# Altium schematic symbol library SOARSchematics.SchLib: 87 symbols (part 1 of 2)
Pins are listed as number, name and electrical type; pins without a type are passive.

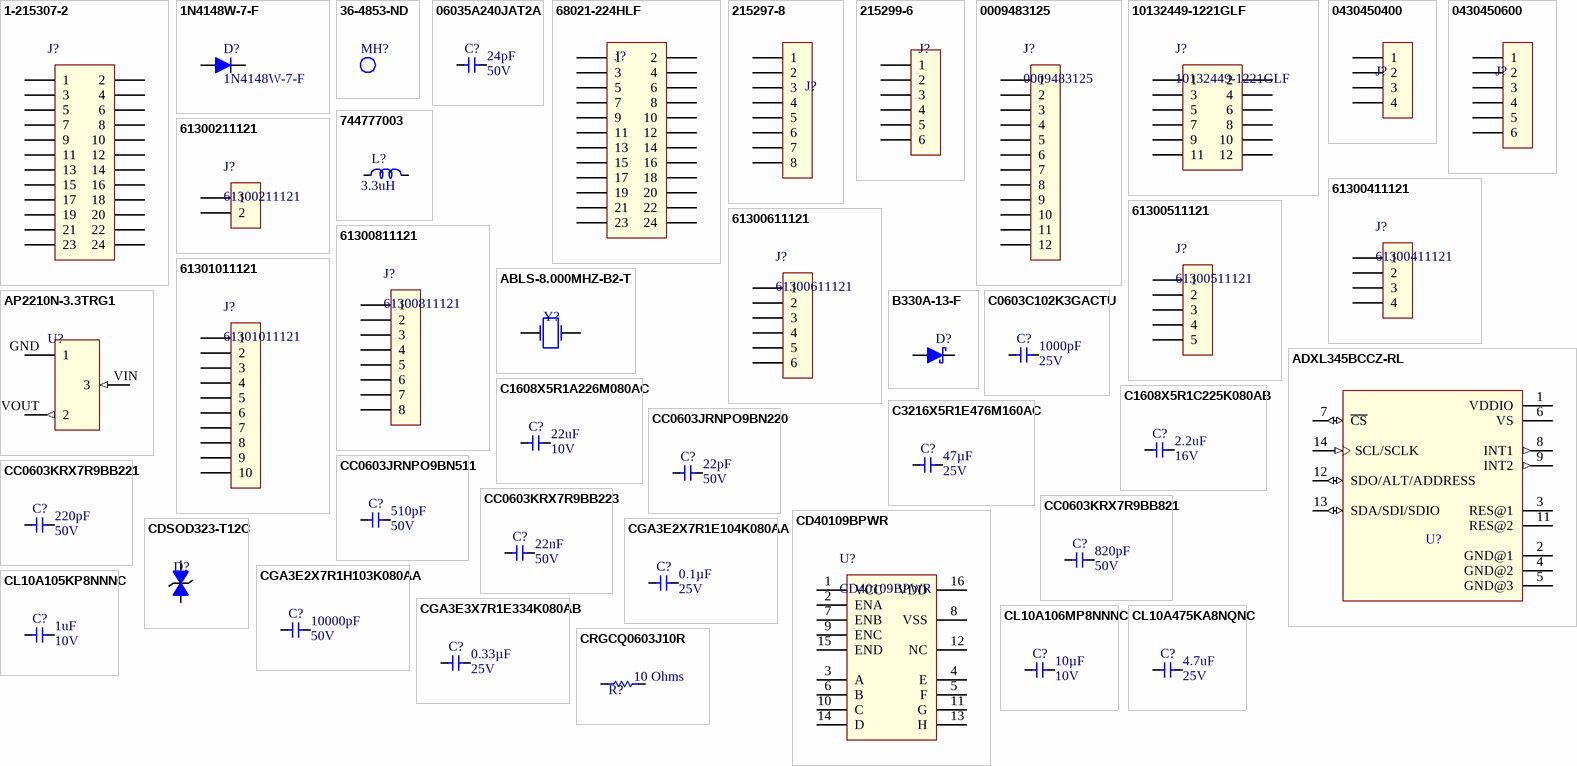
[diagram p0: symbols 1-215307-2 to CRGCQ0603J10R]

## 1-215307-2
designator J?  (value not drawn)
CONN RCPT 24POS 0.1 GOLD PCB; Manufacturer: TE Connectivity AMP Connectors; Connector Type: Receptacle; Number of Positions: 24; Number of Positions Loaded: All; Pitch - Mating: 0.100" (2.54mm); Contact Length - Post: 0.122" (3.10mm); Material Flammability Rating: UL94 V-0; Supplier 1: Digi-Key; Supplier Part Number 1: A106617-ND; ComponentLink1Description: Datasheet; ComponentLink1URL: https://www.te.com/commerce/DocumentDelivery/DDEController?Action=srchrtrv&DocNm=215307&DocType=Customer+Drawing&DocLang=English; Manufacturer Part Number: 1-215307-2; Contact Type: Female Socket; Number of Rows: 2; Row Spacing - Mating: 0.100" (2.54mm); Mounting Type: Through Hole; Termination: Kinked Pin, Solder; Fastening Type: Push-Pull; Contact Finish - Mating: Gold; Contact Finish Thickness - Mating: 31.5µin (0.80µm); Insulation Color: Green; Insulation Height: 0.276" (7.00mm); Contact Finish - Post: Tin; Insulation Material: Polyester, Glass Filled; Contact Shape: Square; Contact Material: Contact Material; Contact Finish Thickness - Post: 98.4µin (2.50µm)
footprint 1-215307-2
pins: 1, 2, 3, 4, 5, 6, 7, 8, 9, 10, 11, 12, 13, 14, 15, 16, 17, 18, 19, 20, 21, 22, 23, 24

## 1N4148W-7-F
designator D?
DIODE GEN PURP 100V 300MA SOD123; Manufacturer: Diodes Incorporated; Diode Type: Standard; Current - Average Rectified (Io): 300mA (DC); Voltage - Forward (Vf) (Max) @ If: 1.25V @ 150mA; Speed: Small Signal =< 200mA (Io), Any Speed; Reverse Recovery Time (trr): 4ns; Current - Reverse Leakage @ Vr: 1µA @ 75V; Capacitance @ Vr, F: 2pF @ 0V, 1MHz; ComponentLink1Description: Datasheet; ComponentLink1URL: https://www.diodes.com/assets/Datasheets/ds30086.pdf; Manufacturer Part Number: 1N4148W-7-F; Voltage - DC Reverse (Vr) (Max): 100V; Mounting Type: Surface Mount; Package / Case: SOD-123; Operating Temperature - Junction: -65°C ~ 150°C; Supplier 1: Digi-Key; Supplier Part Number 1: 1N4148W-FDICT-ND
footprint 1N4148W-7-F (SOD123)
pins: 1 A, 2 C

## 36-4853-ND
designator MH?  (value not drawn)
#4 Screw Standoff, 0.116in Diameter; Manufacturer: Keystone Electronics; Manufacturer Part Number: 4853; Threaded/Unthreaded: Unthreaded; Gender: Female, Force Fit; Between Board Height: 0.375" (9.53mm) 3/8"; Supplier 1: Digi-Key; ComponentLink1Description: Datasheet; ComponentLink1URL: https://www.keyelco.com/userAssets/file/M65p77.pdf; Supplier Part Number 1: 36-4853-ND; Type: Round Spacer; Screw, Thread Size: #4; Diameter - Inside: 0.116" (2.95mm); Diameter - Outside: 0.219" (5.56mm); Length - Overall: 0.435" (11.05mm); Material: Stainless Steel
footprint Standoff (#4, 0.116in)

## 06035A240JAT2A
designator C?  Capacitance: 24pF  Voltage - Rated: 50V  (hidden comment: 06035A240JAT2A)
CAP CER 24PF 50V NP0 0603; Manufacturer: AVX Corporation; Tolerance: ±5%; Temperature Coefficient: C0G, NP0; Operating Temperature: -55°C ~ 125°C; Mounting Type: Surface Mount, MLCC; Package / Case: 0603 (1608 Metric); Size / Dimension: 0.063" L x 0.032" W (1.60mm x 0.81mm); Manufacturer Part Number: 06035A240JAT2A; Thickness (Max): 0.035" (0.90mm); ComponentLink1Description: Datasheet; ComponentLink1URL: http://datasheets.avx.com/C0GNP0-Dielectric.pdf; Supplier 1: Digi-Key; Supplier Part Number 1: 478-10304-1-ND
footprint 0603[1608]
pins: 1, 2

## 68021-224HLF
designator J?  (value not drawn)
CONN HEADER R/A 24POS 2.54MM; Manufacturer: Amphenol ICC (FCI); Pitch-Mating: 0.100" (2.54mm); Number of Positions: 24; Number of Positions Loaded: All; Shrouding: Unshrouded; Style: Board to Board; Contact Length - Mating: 0.230" (5.84mm); Contact Length - Post: 0.120" (3.05mm); Material Flammability Rating: UL94 V-0; Current Rating (Amps): 3A per Contact; ComponentLink1Description: Datasheet; ComponentLink1URL: https://cdn.amphenol-icc.com/media/wysiwyg/files/drawing/68020.pdf; Supplier 1: Digi-Key; Supplier Part Number 1: 609-3348-ND; Connector Type: Header; Contact Type: Male Pin; Number of Rows: 2; Row Spacing - Mating: 0.100" (2.54mm); Mounting Type: Through Hole, Right Angle; Termination: Solder; Fastening Type: Push-Pull; Insulation Height: 0.190" (4.83mm); Contact Shape: Square; Contact Finish - Mating: Gold or Gold, GXT™; Contact Finish Thickness - Mating: 15.0µin (0.38µm); Contact Material: Phosphor Bronze; Operating Temperature: -65°C ~ 125°C; Insulation Color: Black
footprint 68021-224HLF
pins: 1, 2, 3, 4, 5, 6, 7, 8, 9, 10, 11, 12, 13, 14, 15, 16, 17, 18, 19, 20, 21, 22, 23, 24

## 215297-8
designator J?  (value not drawn)
CONN RCPT 8POS 0.1 GOLD PCB; Manufacturer: TE Connectivity AMP Connectors; Connector Type: Receptacle; Number Of Positions: 8; Number Of Positions Loaded: All; Pitch-Mating: 0.100" (2.54mm); Contact Length-Post: 0.122" (3.10mm); Material Flammability Rating: UL94 V-0; Supplier 1: Digi-Key; Supplier Part Number 1: A106654-ND; ComponentLink1Description: Datasheet; ComponentLink1URL: https://www.te.com/commerce/DocumentDelivery/DDEController?Action=srchrtrv&DocNm=215297&DocType=Customer+Drawing&DocLang=English; Contact Type: Female Socket; Number Of Rows: 1; Mounting Type: Through Hole; Termination: Kinked Pin, Solder; Fastening Type: Push-Pull; Contact Finish-Mating: Gold; Contact Finish Mating Thickness-Mating: 31.5µin (0.80µm); Insulation Colour: Green; Insulation Height: 0.276" (7.00mm); Contact Finish - Post: Tin; Insulation Material: Polyester, Glass Filled; Contact Shape: Square; Contact Material: Phosphor Bronze; Contact Finish Thickness - Post: 118.1µin (3.00µm); Manufacturer Part Number: 215297-8
footprint 215297-8
pins: 1, 2, 3, 4, 5, 6, 7, 8

## 215299-6
designator J?  (value not drawn)
CONN RCPT 6POS 0.1 GOLD PCB; Manufacturer: TE Connectivity AMP Connectors; Connector Type: Receptacle; Number Of Positions: 6; Number Of Positions Loaded: All; Pitch-Mating: 0.100" (2.54mm); Contact Length - Post: 0.122" (3.10mm); Material Flammability Rating: UL94 V-0; ComponentLink1Description: Datasheet; ComponentLink1URL: https://www.te.com/commerce/DocumentDelivery/DDEController?Action=srchrtrv&DocNm=215299&DocType=Customer+Drawing&DocLang=English; Supplier 1: Digi-Key; Supplier Part Number 1: A121761-ND; Contact Type: Female Socket; Number Of Rows: 1; Mounting Type: Through Hole; Termination: Kinked Pin, Solder; Fastening Type: Push-Pull; Contact Finish - Mating: Gold; Contact Finish Thickness - Mating: 31.5µin (0.80µm); Insulation Colour: Green; Insulation Height: 0.335" (8.51mm); Contact Finish - Post: Tin; Insulation Material: Polyester, Glass Filled; Contact Shape: Square; Contact Material: Phosphor Bronze; Contact Finish Thickness - Post: 118.1µin (3.00µm); Manufacturer Part Number: 215299-6
footprint 215299-6
pins: 1, 2, 3, 4, 5, 6

## 0009483125
designator J?
CONN RCPT 12P 0.156 GOLD EDGE MT; Manufacturer: Molex; Connector Type: Receptacle; Style: Board to Board or Cable; Number of Positions: 12; Pitch - Mating: 0.156" (3.96mm); Number of Positions Loaded: All; Contact Length - Post: 0.145" (3.68mm); Material Flammability Rating: UL94 V-0; Voltage Rating: 600V; Current Rating (Amps): 4.5A; ComponentLink1Description: Drawing; ComponentLink1URL: https://www.molex.com/pdm_docs/sd/009483125_sd.pdf; Manufacturer Part Number: 0009483125; Contact Type: Female Socket; Number of Rows: 1; Mounting Type: Board Edge, Through Hole, Right Angle; Termination: Solder; Fastening Type: Locking Ramp; Contact Finish - Mating: Gold; Contact Finish Thickness - Mating: 15.0µin (0.38µm); Insulation Color: Natural; Insulation Height: 0.308" (7.82mm); Operating Temperature: -40°C ~ 80°C; Contact Finish - Post: Tin; Features: Board Hooks; Applications: Automotive, General Purpose, Medical, Telecommunications; Insulation Material: Polyester; Contact Shape: Square; Contact Material: Brass; Contact Finish Thickness - Post: 100.0µin (2.54µm)
footprint 0009483125 (CONN RCPT 12P 0.156 GOLD EDGE MT)
pins: 1 (power), 2 (power), 3 (power), 4 (power), 5 (power), 6 (power), 7 (power), 8 (power), 9 (power), 10 (power), 11, 12

## 10132449-1221GLF
designator J?
CONN HEADER R/A 12POS 3MM; Manufacturer: Amphenol ICC (FCI); Pitch - Mating: 0.118" (3.00mm); Number of Positions: 12; Number of Positions Loaded: All; Style: Board to Cable/Wire; Shrouding: Shrouded - 4 Wall; Contact Length - Post: 0.126" (3.20mm); Material Flammability Rating: UL94 V-0; Voltage Rating: 250V; ComponentLink1Description: Datasheet; ComponentLink1URL: https://cdn.amphenol-icc.com/media/wysiwyg/files/documentation/datasheet/boardwiretoboard/bwb_minitekpwr3.0_hcc.pdf?__cf_chl_jschl_tk__=5b50c337d7977d3136f5a7e9c1a5138446a86722-1578191481-0-AdRe7fXYrldvOZ_oqyXIDS1Fw-yIkYCF-QCdaR8gv5bvudzwMePuF1OnY_qX9R1SRbUtnU8KyfMeQWvo-tgbYDs0UY0fEf2VYly7RnE44wN6RCRwe79pwwTkwB-vrp_E3FFt_m8Gv1l0VQgfDvqJJh9NWsFdXN6uiHYgEWJHQlxni9pgO_Rgu9b74Q_adNTuUPkDts4F_sjwuXFS2gwZ4qhDRVIbOsJk9z2IFwtIQbJe2Vjr12REDPUJnSIFI5L_m3PVR56FMV99EE0fexLx9E4Xzm8z4yXY4QuL_nxicuZLnFM8rKw84cv6VQDtrcv1h8b5URSWpnxkbKmN-6xqBT_N2gwuiomQytubllip4AB4QtXNO4uZy8p0Kaq8ZXDsS9f0XOGpGrNCvURFRCr5YrB2nakG2mZwStZMD_Rr-W-x1kEQ5VT0_Uar3vHfURsPPw; ComponentLink2Description: Drawing; ComponentLink2URL: https://cdn.amphenol-icc.com/media/wysiwyg/files/drawing/10132449.pdf?__cf_chl_jschl_tk__=3fb7538f61705fd3db72d6547b71e22025aaeae6-1578191484-0-ARZmBU2d2iTfwOyvkDW6juGvz8Wa7jPk-lPTAGC3bi6AwA2PAOw_83XbqimUoaj63c73oghkBl5EBlxfVnJt5FnKIy9_Ampqry6wpxN3P9yFfGzzu2bzrkjXc8H98cNGfE4yNZOx4lVYAc0DYF8iUgUBt3ot3PAqRWTuL_OE0dIKXvMd7u_4fU7igR1oB3QBFAu564mexcV1Dg4phJ9BA4kHFs6CIC10MmA2ZlPsaDWmfr6ivcYRarJOnVBN46Piz5s9Rafd2OkXuSIM4yJjlli4dKOItRDrJD3hRC0iA9RVgXipc9Ibd3Qny2RaW6xQiV-dovtBkpyFUGJQUyK5Difre6fQiv59Vrr2PfvD74WBgrERIBaIQ4JCRXFCC0XHSA; Supplier 1: Digi-Key; Supplier Part Number 1: 609-5289-ND; Contact Type: Male Pin; Number of Rows: 2; Row Spacing - Mating: 0.118" (3.00mm); Mounting Type: Through Hole, Right Angle; Termination: Solder; Fastening Type: Locking Ramp; Insulation Height: 0.343" (8.71mm); Contact Shape: Square; Contact Finish - Mating: Tin; Contact Finish - Post: Tin; Contact Material: Copper Alloy; Insulation Material: Polyamide (PA9T), Nylon 9T; Features: Board Lock, Glow Wire Compliant; Operating Temperature: -40°C ~ 105°C; Insulation Color: Black; Manufacturer Part Number: 10132449-1221GLF
footprint 10132449-1221GLF (CONN HEADER R/A 12POS 3MM)
pins: 1, 2, 3, 4, 5, 6, 7, 8, 9, 10, 11, 12

## 0430450400
designator J?  (value not drawn)
CONN HEADER R/A 4POS 3MM; Manufacturer: Molex; Number of Positions: 4; Row Spacing - Mating: 0.118" (3.00mm); Shrouding: Shrouded - 4 Wall; Contact Length - Post: 0.125" (3.18mm); Material Flammability Rating: UL94 V-0; Current Rating (Amps): 8A; Voltage Rating: 600V; ComponentLink1Description: Datasheet; ComponentLink1URL: https://www.molex.com/pdm_docs/sd/430450400_sd.pdf; ComponentLink2Description: Product Specification; ComponentLink2URL: https://www.molex.com/pdm_docs/ps/PS-43045.pdf; Manufacturer Part Number: 0430450400; Contact Type: 0.118" (3.00mm); Number of Rows: 2; Mounting Type: Through Hole, Right Angle; Termination: Solder; Fastening Type: Locking Ramp; Insulation Height: 0.290" (7.37mm); Contact Shape: Square; Contact Finish - Mating: Tin; Contact Finish Thickness - Mating: 100.0µin (2.54µm); Contact Finish - Post: Tin; Contact Material: Brass; Insulation Material: Liquid Crystal Polymer (LCP), Glass Filled; Features: Board Lock; Insulation Color: Black; Supplier 1: Digi-Key; Supplier Part Number 1: WM1814-ND
footprint 0430450400 (4-Pin Molex 3.00mm Pitch)
pins: 1, 2, 3, 4

## 0430450600
designator J?  (value not drawn)
CONN HEADER R/A 6POS 3MM; Manufacturer: Molex; Number of Positions: 6; Row Spacing - Mating: 0.118" (3.00mm); Shrouding: Shrouded - 4 Wall; Contact Length - Post: 0.125" (3.18mm); Material Flammability Rating: UL94 V-0; Current Rating (Amps): 8A; Voltage Rating: 600V; ComponentLink1Description: Drawing; ComponentLink1URL: https://www.molex.com/pdm_docs/sd/430450600_sd.pdf; ComponentLink2Description: Product Specification; ComponentLink2URL: https://www.molex.com/pdm_docs/ps/PS-43045.pdf; Manufacturer Part Number: 0430450600; Contact Type: Male Pin; Number of Rows: 2; Mounting Type: Through Hole, Right Angle; Termination: Solder; Fastening Type: Locking Ramp; Insulation Height: 0.290" (7.37mm); Contact Shape: Square; Contact Finish - Mating: Tin; Contact Finish Thickness - Mating: 100.0µin (2.54µm); Contact Finish - Post: Tin; Contact Material: Brass; Insulation Material: Liquid Crystal Polymer (LCP), Glass Filled; Features: Board Lock; Insulation Color: Black; Supplier 1: Digi-Key; Supplier Part Number 1: WM1815-ND
footprint 0430450600 (6-Pin Molex 3.00mm Pitch)
pins: 1, 2, 3, 4, 5, 6

## 744777003
designator L?  value 3.3uH  (hidden comment: 744777003)
SMT SHIELDED POWER INDUCTOR SIZE; Manufacturer: Würth Elektronik; Type: Wirewound; Material - Core: Ferrite; Tolerance: +-20%; Current Rating (Amps): 3.5A; DC Resistance (DCR): 30mOhm Max; Inductance Frequency - Test: 55MHz; Current - Saturation: 4.6A; Series: 744777003; Shielding: Shielded; Operating Temperature: -40°C ~ 125°C; Mounting Type: Surface Mount; Size/Dimension: 0.287"" L x 0.287"" W (7.30mm x 7.30mm); Height - Seated (Max): 0.177"" (4.50mm); ComponentLink1Description: Datasheet; ComponentLink1URL: https://www.we-online.com/catalog/datasheet/744777003.pdf; Supplier Device Package: 7345; Supplier 1: Digi-Key; Supplier Part Number 1: 732-13497-1-ND; Ratings: AEC-Q200
footprint 744777003 (SMT SHIELDED POWER INDUCTOR SIZE)
pins: 1, 2

## 61300211121
designator J?
CONN HEADER VERT 2POS 2.54MM; Manufacturer: Würth Elektronik; Pitch - Mating: 0.100" (2.54mm); Number of Positions: 2; Style: Board to Board or Cable; Shrouding: Unshrouded; Contact Length - Mating: 0.236" (6.00mm); Contact Length - Post: 0.118" (3.00mm); Overall Contact Length: 0.454" (11.54mm); Material Flammability Rating: UL94 V-0; Current Rating (Amps): 3A; Voltage Rating: 250V; ComponentLink1Description: Drawing; ComponentLink1URL: https://www.we-online.de/katalog/datasheet/6130xx11121.pdf; Manufacturer Part Number: 61300211121; Connector Type: Header; Contact Type: Male Pin; Number of Rows: 1; Mounting Type: Through Hole; Termination: Solder; Fastening Type: Push-Pull; Insulation Height: 0.100" (2.54mm); Contact Shape: Square; Contact Finish - Mating: Gold; Contact Material: Copper Alloy; Insulation Material: Polybutylene Terephthalate (PBT); Operating Temperature: -40°C ~ 105°C; Insulation Color: Black; Supplier 1: Digi-Key; Supplier Part Number 1: 732-5315-ND
footprint 61300211121 (CONN HEADER VERT 2POS 2.54MM)
pins: 1, 2

## 61300411121
designator J?
CONN HEADER VERT 4POS MALE 2.54MM; Manufacturer: Würth Elektronik; Pitch - Mating: 0.100" (2.54mm); Number of Positions: 4; Style: Board to Board or Cable; Shrouding: Unshrouded; Contact Length - Mating: 0.236" (6.00mm); Contact Length - Post: 0.118" (3.00mm); Overall Contact Length: 0.454" (11.54mm); Material Flammability Rating: UL94 V-0; Current Rating (Amps): 3A; Voltage Rating: 250V; ComponentLink1Description: Drawing; ComponentLink1URL: https://www.we-online.de/katalog/datasheet/6130xx11121.pdf; Manufacturer Part Number: 61300411121; Connector Type: Header; Contact Type: Male Pin; Number of Rows: 1; Mounting Type: Through Hole; Termination: Solder; Fastening Type: Push-Pull; Insulation Height: 0.100" (2.54mm); Contact Shape: Square; Contact Finish - Mating: Gold; Contact Material: Copper Alloy; Insulation Material: Polybutylene Terephthalate (PBT); Operating Temperature: -40°C ~ 105°C; Insulation Color: Black; Supplier 1: Digi-Key; Supplier Part Number 1: 732-5317-ND
footprint 61300411121 (CONN HEADER VERT 4POS 2.54MM)
pins: 1, 2, 3, 4

## 61300511121
designator J?
CONN HEADER VERT 5POS MALE 2.54MM; Manufacturer: Würth Elektronik; Pitch - Mating: 0.100" (2.54mm); Number of Positions: 5; Style: Board to Board or Cable; Shrouding: Unshrouded; Contact Length - Mating: 0.236" (6.00mm); Contact Length - Post: 0.118" (3.00mm); Overall Contact Length: 0.454" (11.54mm); Material Flammability Rating: UL94 V-0; Current Rating (Amps): 3A; Voltage Rating: 250V; ComponentLink1Description: Drawing; ComponentLink1URL: https://www.we-online.de/katalog/datasheet/6130xx11121.pdf; Manufacturer Part Number: 61300511121; Connector Type: Header; Contact Type: Male Pin; Number of Rows: 1; Mounting Type: Through Hole; Termination: Solder; Fastening Type: Push-Pull; Insulation Height: 0.100" (2.54mm); Contact Shape: Square; Contact Finish - Mating: Gold; Contact Material: Copper Alloy; Insulation Material: Polybutylene Terephthalate (PBT); Operating Temperature: -40°C ~ 105°C; Insulation Color: Black; Supplier 1: Digi-Key; Supplier Part Number 1: 732-5318-ND
footprint 61300511121 (CONN HEADER VERT 5POS 2.54MM)
pins: 1, 2, 3, 4, 5

## 61300611121
designator J?
CONN HEADER VERT 6POS MALE 2.54MM; Manufacturer: Würth Elektronik; Pitch - Mating: 0.100" (2.54mm); Number of Positions: 6; Style: Board to Board or Cable; Shrouding: Unshrouded; Contact Length - Mating: 0.236" (6.00mm); Contact Length - Post: 0.118" (3.00mm); Overall Contact Length: 0.454" (11.54mm); Material Flammability Rating: UL94 V-0; Current Rating (Amps): 3A; Voltage Rating: 250V; ComponentLink1Description: Drawing; ComponentLink1URL: https://www.we-online.de/katalog/datasheet/6130xx11121.pdf; Manufacturer Part Number: 61300611121; Connector Type: Header; Contact Type: Male Pin; Number of Rows: 1; Mounting Type: Through Hole; Termination: Solder; Fastening Type: Push-Pull; Insulation Height: 0.100" (2.54mm); Contact Shape: Square; Contact Finish - Mating: Gold; Contact Material: Copper Alloy; Insulation Material: Polybutylene Terephthalate (PBT); Operating Temperature: -40°C ~ 105°C; Insulation Color: Black; Supplier 1: Digi-Key; Supplier Part Number 1: 732-5319-ND
footprint 61300611121 (CONN HEADER VERT 6POS 2.54MM)
pins: 1, 2, 3, 4, 5, 6

## 61300811121
designator J?
CONN HEADER VERT 8POS  MALE 2.54MM; Manufacturer: Würth Elektronik; Pitch - Mating: 0.100" (2.54mm); Number of Positions: 8; Style: Board to Board or Cable; Shrouding: Unshrouded; Contact Length - Mating: 0.236" (6.00mm); Contact Length - Post: 0.118" (3.00mm); Overall Contact Length: 0.454" (11.54mm); Material Flammability Rating: UL94 V-0; Current Rating (Amps): 3A; Voltage Rating: 250V; ComponentLink1Description: Drawing; ComponentLink1URL: https://www.we-online.de/katalog/datasheet/6130xx11121.pdf; Manufacturer Part Number: 61300811121; Connector Type: Header; Contact Type: Male Pin; Number of Rows: 1; Mounting Type: Through Hole; Termination: Solder; Fastening Type: Push-Pull; Insulation Height: 0.100" (2.54mm); Contact Shape: Square; Contact Finish - Mating: Gold; Contact Material: Copper Alloy; Insulation Material: Polybutylene Terephthalate (PBT); Operating Temperature: -40°C ~ 105°C; Insulation Color: Black; Supplier 1: Digi-Key; Supplier Part Number 1: 732-5321-ND
footprint 61300811121 (CONN HEADER VERT 8POS 2.54MM)
pins: 1, 2, 3, 4, 5, 6, 7, 8

## 61301011121
designator J?
CONN HEADER VERT 10POS MALE 2.54MM; Manufacturer: Würth Elektronik; Pitch - Mating: 0.100" (2.54mm); Number of Positions: 10; Style: Board to Board or Cable; Shrouding: Unshrouded; Contact Length - Mating: 0.236" (6.00mm); Contact Length - Post: 0.118" (3.00mm); Overall Contact Length: 0.454" (11.54mm); Material Flammability Rating: UL94 V-0; Current Rating (Amps): 3A; Voltage Rating: 250V; ComponentLink1Description: Drawing; ComponentLink1URL: https://www.we-online.de/katalog/datasheet/6130xx11121.pdf; Manufacturer Part Number: 61301011121; Connector Type: Header; Contact Type: Male Pin; Number of Rows: 1; Mounting Type: Through Hole; Termination: Solder; Fastening Type: Push-Pull; Insulation Height: 0.100" (2.54mm); Contact Shape: Square; Contact Finish - Mating: Gold; Contact Material: Copper Alloy; Insulation Material: Polybutylene Terephthalate (PBT); Operating Temperature: -40°C ~ 105°C; Insulation Color: Black; Supplier 1: Digi-Key; Supplier Part Number 1: 732-2670-ND
footprint 61301011121 (CONN HEADER VERT 10POS 2.54MM)
pins: 1, 2, 3, 4, 5, 6, 7, 8, 9, 10

## ABLS-8.000MHZ-B2-T
designator Y?  (value not drawn)
CRYSTAL 8.0000MHZ 18PF SMD; Manufacturer: Abracon LLC; Frequency Stability: ±50ppm; Frequency Tolerance: ±20ppm; ESR (Equivalent Series Resistance): 80 Ohms; Operating Mode: Fundamental; Supplier 1: Digi-Key; Series: ABLS; Packaging: Cut Tape(CT); Type: MHz Crystal; Load Capacitance: 18pF; Operating Temperature: -20°C ~ 70°C; Mounting Type: Surface Mount; Package/Case: HC-49/US; Size / Dimension: 0.449" L x 0.185" W (11.40mm x 4.70mm); Height - Seated (Max): 0.165" (4.20mm); Supplier Part Number 1: 535-9089-1-ND; ComponentLink1Description: Datasheet; ComponentLink1URL: https://abracon.com/Resonators/abls.pdf; ComponentLink2Description: Drawing; ComponentLink2URL: https://abracon.com/Support/PackageDrawing/Resonators/ABLS-2D.pdf
footprint ABLS-8.000MHZ-B2-T (CRYSTAL 8.0000MHZ 18PF SMD)
pins: 1 (power), 2 (power)

## ADXL345BCCZ-RL
designator U?  (value not drawn)
ACCEL 2-16G I2C/SPI 14LGA; Manufacturer: Analog Devices Inc.; Acceleration Range: ±2g, 4g, 8g, 16g; Sensitivity (LSB/g): 256 (±2g) ~ 32 (±16g); Bandwidth: 0.05Hz ~ 1.6kHz; Output Type: I²C, SPI; Voltage - Supply: 2V ~ 3.6V; Supplier 1: Digi-Key; Supplier Part Number 1: ADXL345BCCZ-RLCT-ND; Manufacturer Part Number: ADXL345BCCZ-RL; Type: Digital; Features: Adjustable Bandwidth; Operating Temperature: -40°C ~ 85°C (TA); Mounting Type: Surface Mount; ComponentLink1Description: Datasheet; ComponentLink1URL: https://www.analog.com/media/en/technical-documentation/data-sheets/ADXL345.pdf
footprint ADXL345BCCZ-RL
pins: 1 VDDIO (power), 2 GND@1 (power), 3 RES@1, 4 GND@2 (power), 5 GND@3 (power), 6 VS (power), 7 ~{CS} (io), 8 INT1 (out), 9 INT2 (out), 11 RES@2, 12 SDO/ALT/ADDRESS (io), 13 SDA/SDI/SDIO (io), 14 SCL/SCLK (in)

## AP2210N-3.3TRG1
designator U?  (value not drawn)
IC REG LINEAR 3.3V 300MA SOT23-3; Manufacturer: Diodes Incorporated; Output Configuration: Positive; Output Type: Fixed; Number of Regulators: 1; Voltage - Input (Max): 13.2v; Voltage Dropout (Max): 0.5V @ 300mA; Current - Quiescent (Iq): 180µA; Current - Supply (Max): 15mA; PSRR: 75dB (100Hz); Protection Features: Over Current, Over Temperature, Reverse Polarity; Supplier 1: Digi-Key; Voltage - Output (Min/Fixed): 3.3V; Current - Output: 300mA; Operating Temperature: -40°C ~ 125°C; Mounting Type: Surface Mount; Supplier Part Number 1: AP2210N-3.3TRG1DICT-ND; ComponentLink1Description: Datasheet; ComponentLink1URL: https://www.diodes.com/assets/Datasheets/AP2210.pdf
footprint AP2210N-3.3TRG1 (IC REG LINEAR 3.3V 300MA SOT23-3)
pins: GND 1, VIN 3 (in), VOUT 2 (out)

## B330A-13-F
designator D?  (value not drawn)
DIODE SCHOTTKY 30V 3A SMA; Manufacturer: Diodes Incorporated; Voltage - Forward (Vf) (Max) @ If: 500mV @ 3A; 500mV @ 3A: Fast Recovery =< 500ns, > 200mA (Io); Current - Reverse Leakage @ Vr: 500µA @ 30V; Capacitance @ Vr, F: 200pF @ 4V, 1MHz; ComponentLink1Description: Datasheet; ComponentLink1URL: https://www.diodes.com/assets/Datasheets/ds30891.pdf; Manufacturer Part Number: B330A-13-F; Type: Schottky; Supplier 1: Digi-Key; Supplier Part Number 1: B330A-FDICT-ND; Voltage - DC Reverse (Vr) (Max): 30V; Current - Average Rectified (Io): 3A; Mounting Type: Surface Mount; Package / Case: DO-214AC, SMA; Operating Temperature - Junction: -55°C ~ 150°C
footprint B330A-13-F (DIODE SCHOTTKY 30V 3A SMA)
pins: 1 (power), 2 (power)

## C0603C102K3GACTU
designator C?  Capacitance: 1000pF  Voltage - Rated: 25V  (hidden comment: C0603C102K3GACTU)
CAP CER 1000PF 25V C0G/NP0 0603; Manufacturer: KEMET; Tolerance: ±10%; Temperature Coefficient: C0G, NP0; Operating Temperature: -55°C ~ 85°C; Mounting Type: Surface Mount, MLCC; Package / Case: 0603 (1608 Metric); Size / Dimension: 0.063" L x 0.031" W (1.60mm x 0.80mm); Manufacturer Part Number: C0603C102K3GACTU; Thickness (Max): 0.034" (0.87mm); ComponentLink1Description: Datasheet; ComponentLink1URL: https://content.kemet.com/datasheets/KEM_C1003_C0G_SMD.pdf; Supplier 1: Digi-Key; Supplier Part Number 1: 399-7833-1-ND
footprint 0603[1608]
pins: 1, 2

## C1608X5R1A226M080AC
designator C?  Capacitance: 22uF  Voltage - Rated: 10V  (hidden comment: C1608X5R1A226M080AC)
CAP CER 22UF 10V X5R 0603; Manufacturer: TDK Corporation; Tolerance: ±20%; Temperature Coefficient: X5R; Operating Temperature: -55°C ~ 85°C; Mounting Type: Surface Mount, MLCC; Package / Case: 0603 (1608 Metric); Size / Dimension: 0.063" L x 0.031" W (1.60mm x 0.80mm); Manufacturer Part Number: C1608X5R1A226M080AC; Thickness (Max): 0.039" (1.00mm); ComponentLink1Description: Datasheet; ComponentLink1URL: https://product.tdk.com/info/en/catalog/spec/mlccspec_commercial_general_midvoltage_en.pdf; Supplier 1: Digi-Key; Supplier Part Number 1: 445-9077-1-ND
footprint 0603[1608]
pins: 1, 2

## C1608X5R1C225K080AB
designator C?  Capacitance: 2.2uF  Voltage - Rated: 16V  (hidden comment: C1608X5R1C225K080AB)
CAP CER 2.2UF 16V X5R 0603; Manufacturer: TDK Corporation; Tolerance: ±10%; Temperature Coefficient: X5R; Operating Temperature: -55°C ~ 85°C; Mounting Type: Surface Mount, MLCC; Package / Case: 0603 (1608 Metric); Size / Dimension: 0.063" L x 0.031" W (1.60mm x 0.80mm); Manufacturer Part Number: C1608X5R1C225K080AB; Thickness (Max): 0.035" (0.90mm); ComponentLink1Description: Datasheet; ComponentLink1URL: https://product.tdk.com/info/en/catalog/spec/mlccspec_commercial_general_midvoltage_en.pdf; Supplier 1: Digi-Key; Supplier Part Number 1: 445-5157-1-ND
footprint 0603[1608]
pins: 1, 2

## C3216X5R1E476M160AC
designator C?  Capacitance: 47µF  Voltage - Rated: 25V  (hidden comment: C3216X5R1E476M160AC)
CAP CER 47UF 25V X5R 1206; Manufacturer: TDK Corporation; Tolerance: ±20%; Temperature Coefficient: X5R; Operating Temperature: -55°C ~ 85°C; Mounting Type: Surface Mount, MLCC; Package / Case: 1206 (3216 Metric); Size / Dimension: 0.126" L x 0.063" W (3.20mm x 1.60mm); Manufacturer Part Number: C3216X5R1E476M160AC; Thickness (Max): 0.071" (1.80mm); ComponentLink1Description: Datasheet; ComponentLink1URL: http://www.samsungsem.com/kr/support/product-search/mlcc/__icsFiles/afieldfile/2019/05/10/19-CL10A105KP8NNNC.pdf; Supplier 1: Digi-Key; Supplier Part Number 1: 445-8047-1-ND
footprint 1206[3216] (1206 Ceramic Capacitor)
pins: 1, 2

## CC0603JRNPO9BN220
designator C?  Capacitance: 22pF  Voltage - Rated: 50V  (hidden comment: CC0603JRNPO9BN220)
CAP CER 22PF 50V C0G/NPO 0603; Manufacturer: Yageo; Tolerance: ±5%; Temperature Coefficient: C0G, NP0; Operating Temperature: -55°C ~ 125°C; Mounting Type: Surface Mount, MLCC; Package / Case: 0603 (1608 Metric); Size / Dimension: 0.063" L x 0.031" W (1.60mm x 0.80mm); Manufacturer Part Number: CC0603JRNPO9BN220; Thickness (Max): 0.035" (0.90mm); ComponentLink1Description: Datasheet; ComponentLink1URL: https://www.yageo.com/upload/media/product/productsearch/datasheet/mlcc/UPY-GP_NP0_16V-to-50V_18.pdf; Supplier 1: Digi-Key; Supplier Part Number 1: 311-1062-1-ND
footprint 0603[1608]
pins: 1, 2

## CC0603JRNPO9BN511
designator C?  Capacitance: 510pF  Voltage - Rated: 50V  (hidden comment: CC0603JRNPO9BN511)
CAP CER 510PF 50V NPO 0603; Manufacturer: Yageo; Tolerance: ±5%; Temperature Coefficient: C0G, NP0; Operating Temperature: -55°C ~ 125°C; Mounting Type: Surface Mount, MLCC; Package / Case: 0603 (1608 Metric); Size / Dimension: 0.063" L x 0.031" W (1.60mm x 0.80mm); Manufacturer Part Number: CC0603JRNPO9BN511; Thickness (Max): 0.035" (0.90mm); ComponentLink1Description: Datasheet; ComponentLink1URL: https://www.yageo.com/upload/media/product/productsearch/datasheet/mlcc/UPY-GP_NP0_16V-to-50V_18.pdf; Supplier 1: Digi-Key; Supplier Part Number 1: 311-3972-1-ND
footprint 0603[1608]
pins: 1, 2

## CC0603KRX7R9BB221
designator C?  Capacitance: 220pF  Voltage - Rated: 50V  (hidden comment: CC0603KRX7R9BB221)
CAP CER 220PF 50V X7R 0603; Manufacturer: Yageo; Tolerance: ±10%; Temperature Coefficient: X7R; Operating Temperature: -55°C ~ 125°C; Mounting Type: Surface Mount, MLCC; Package / Case: 0603 (1608 Metric); Size / Dimension: 0.063" L x 0.031" W (1.60mm x 0.80mm); Manufacturer Part Number: CC0603KRX7R9BB221; Thickness (Max): 0.035" (0.90mm); ComponentLink1Description: Datasheet; ComponentLink1URL: https://www.yageo.com/upload/media/product/productsearch/datasheet/mlcc/UPY-GP_NP0_16V-to-50V_18.pdf; Supplier 1: Digi-Key; Supplier Part Number 1: 311-1077-1-ND
footprint 0603[1608]
pins: 1, 2

## CC0603KRX7R9BB223
designator C?  Capacitance: 22nF  Voltage - Rated: 50V  (hidden comment: CC0603KRX7R9BB223)
CAP CER 0.022UF 50V X7R 0603; Manufacturer: Yageo; Tolerance: ±10%; Temperature Coefficient: X7R; Operating Temperature: -55°C ~ 125°C; Mounting Type: Surface Mount, MLCC; Package / Case: 0603 (1608 Metric); Size / Dimension: 0.063" L x 0.031" W (1.60mm x 0.80mm); Manufacturer Part Number: CC0603KRX7R9BB223; Thickness (Max): 0.035" (0.90mm); ComponentLink1Description: Datasheet; ComponentLink1URL: https://www.yageo.com/upload/media/product/productsearch/datasheet/mlcc/UPY-GP_NP0_16V-to-50V_18.pdf; Supplier 1: Digi-Key; Supplier Part Number 1: 311-1370-1-ND
footprint 0603[1608]
pins: 1, 2

## CC0603KRX7R9BB821
designator C?  Capacitance: 820pF  Voltage - Rated: 50V  (hidden comment: CC0603KRX7R9BB821)
CAP CER 820PF 50V X7R 0603; Manufacturer: Yageo; Tolerance: ±10%; Temperature Coefficient: X7R; Operating Temperature: -55°C ~ 125°C; Mounting Type: Surface Mount, MLCC; Package / Case: 0603 (1608 Metric); Size / Dimension: 0.063" L x 0.031" W (1.60mm x 0.80mm); Manufacturer Part Number: CC0603KRX7R9BB821; Thickness (Max): 0.035" (0.90mm); ComponentLink1Description: Datasheet; ComponentLink1URL: https://www.yageo.com/upload/media/product/productsearch/datasheet/mlcc/UPY-GP_NP0_16V-to-50V_18.pdf; Supplier 1: Digi-Key; Supplier Part Number 1: 311-1189-1-ND
footprint 0603[1608]
pins: 1, 2

## CD40109BPWR
designator U?
IC TRNSLTR UNIDIR 16TSSOP; Manufacturer: Texas Instruments; ComponentLink1Description: Datasheet; ComponentLink1URL: http://www.ti.com/general/docs/suppproductinfo.tsp?distId=10&gotoUrl=http%3A%2F%2Fwww.ti.com%2Flit%2Fgpn%2Fcd40109b; Manufacturer Part Number: CD40109BPWR
footprint TSOP65P640X120-16N (TSOP, 16-Leads, Body 5.00x4.40mm, Pitch 0.65mm, IPC Medium Density)
pins: 1 VCC (power), 2 ENA, 3 A, 4 E, 5 F, 6 B, 7 ENB, 8 VSS (power), 9 ENC, 10 C, 11 G, 12 NC, 13 H, 14 D, 15 END, 16 VDD

## CDSOD323-T12C
designator D?  (value not drawn)
TVS DIODE 12V 28.3V SOD323; Manufacturer: Bourns Inc.; Type: Zener; Bidirectional Channels: 1; Voltage - Breakdown (Min): 13.3V; Voltage - Clamping (Max) @ Ipp: 28.3V (Typ); Current - Peak Pulse (10/1000µs): 11A (8/20µs); Power - Peak Pulse: 350W; Power Line Protection: No; Capacitance @ Frequency: 3pF @ 1MHz; ComponentLink1Description: Datasheet; ComponentLink1URL: https://www.bourns.com/docs/Product-Datasheets/CDSOD323-TxxC.PDF; Manufacturer Part Number: CDSOD323-T12C; Voltage - Reverse Standoff (Typ): 12V; Operating Temperature: -55°C ~ 150°C (TJ); Mounting Type: Surface Mount; Package / Case: SC-76, SOD-323; Supplier 1: Digi-Key; Supplier Part Number 1: CDSOD323-T12CCT-ND
footprint CDSOD323-T12C (TVS DIODE 12V 28.3V SOD323)
pins: 1 (power), 2 (power)

## CGA3E2X7R1E104K080AA
designator C?  Capacitance: 0.1µF  Voltage - Rated: 25V  (hidden comment: CGA3E2X7R1E104K080AA)
CAP CER 0.1UF 25V X7R 0603; Manufacturer: TDK Corporation; Tolerance: ±10%; Temperature Coefficient: X7R; Operating Temperature: -55°C ~ 125°C; Mounting Type: Surface Mount, MLCC; Package / Case: 0603 (1608 Metric); Size / Dimension: 0.063" L x 0.031" W (1.60mm x 0.80mm); Manufacturer Part Number: CGA3E2X7R1E104K080AA; Thickness (Max): 0.035" (0.90mm); ComponentLink1Description: Datasheet; ComponentLink1URL: https://product.tdk.com/info/en/catalog/spec/mlccspec_automotive_general_en.pdf; Supplier 1: Digi-Key; Supplier Part Number 1: 445-5667-1-ND
footprint 0603[1608]
pins: 1, 2

## CGA3E2X7R1H103K080AA
designator C?  Capacitance: 10000pF  Voltage - Rated: 50V  (hidden comment: CGA3E2X7R1H103K080AA)
CAP CER 10000PF 50V X7R 0603; Manufacturer: TDK Corporation; Tolerance: ±10%; Temperature Coefficient: X7R; Operating Temperature: -55°C ~ 125°C; Mounting Type: Surface Mount, MLCC; Package / Case: 0603 (1608 Metric); Size / Dimension: 0.063" L x 0.031" W (1.60mm x 0.80mm); Manufacturer Part Number: CGA3E2X7R1H103K080AA; Thickness (Max): 0.035" (0.90mm); ComponentLink1Description: Datasheet; ComponentLink1URL: https://product.tdk.com/info/en/catalog/spec/mlccspec_automotive_general_en.pdf; Supplier 1: Digi-Key; Supplier Part Number 1: 445-5662-1-ND
footprint 0603[1608]
pins: 1, 2

## CGA3E3X7R1E334K080AB
designator C?  Capacitance: 0.33µF  Voltage - Rated: 25V  (hidden comment: CGA3E3X7R1E334K080AB)
CAP CER 0.33UF 25V X7R 0603; Manufacturer: TDK Corporation; Tolerance: ±10%; Temperature Coefficient: X7R; Operating Temperature: -55°C ~ 125°C; Mounting Type: Surface Mount, MLCC; Package / Case: 0603 (1608 Metric); Size / Dimension: 0.063" L x 0.031" W (1.60mm x 0.80mm); Manufacturer Part Number: CGA3E3X7R1E334K080AB; Thickness (Max): 0.034" (0.87mm); ComponentLink1Description: Datasheet; ComponentLink1URL: https://content.kemet.com/datasheets/KEM_C1003_C0G_SMD.pdf; Supplier 1: Digi-Key; Supplier Part Number 1: 445-12544-1-ND
footprint 0603[1608]
pins: 1, 2

## CL10A105KP8NNNC
designator C?  Capacitance: 1uF  Voltage - Rated: 10V  (hidden comment: CL10A105KP8NNNC)
CAP CER 1UF 10V X5R 0603; Manufacturer: Samsung Electro-Mechanics; Tolerance: ±10%; Temperature Coefficient: X5R; Operating Temperature: -55°C ~ 85°C; Mounting Type: Surface Mount, MLCC; Package / Case: 0603 (1608 Metric); Size / Dimension: 0.063" L x 0.031" W (1.60mm x 0.80mm); Manufacturer Part Number: CL10A105KP8NNNC; Thickness (Max): 0.035" (0.90mm); ComponentLink1Description: Datasheet; ComponentLink1URL: http://www.samsungsem.com/kr/support/product-search/mlcc/__icsFiles/afieldfile/2019/05/10/19-CL10A105KP8NNNC.pdf; Supplier 1: Digi-Key; Supplier Part Number 1: 1276-1182-1-ND
footprint 0603[1608]
pins: 1, 2

## CL10A106MP8NNNC
designator C?  Capacitance: 10µF  Voltage - Rated: 10V  (hidden comment: CL10A106MP8NNNC)
CAP CER 10UF 10V X5R 0603; Manufacturer: Samsung Electro-Mechanics; Tolerance: ±20%; Temperature Coefficient: X5R; Operating Temperature: -55°C ~ 85°C; Mounting Type: Surface Mount, MLCC; Package / Case: 0603 (1608 Metric); Size / Dimension: 0.063" L x 0.031" W (1.60mm x 0.80mm); Manufacturer Part Number: CL10A106MP8NNNC; Thickness (Max): 0.035" (0.90mm); ComponentLink1Description: Datasheet; ComponentLink1URL: https://static6.arrow.com/aropdfconversion/f91a1722e2705c3d73cfb1979021b64ae4055093/19-cl10a106mp8nnnc.pdf; Supplier 1: Digi-Key; Supplier Part Number 1: 1276-1871-1-ND
footprint 0603[1608]
pins: 1, 2

## CL10A475KA8NQNC
designator C?  Capacitance: 4.7uF  Voltage - Rated: 25V  (hidden comment: CL10A475KA8NQNC)
CAP CER 4.7UF 25V X5R 0603; Manufacturer: Samsung Electro-Mechanics; Tolerance: ±10%; Temperature Coefficient: X5R; Operating Temperature: -55°C ~ 85°C; Mounting Type: Surface Mount, MLCC; Package / Case: 0603 (1608 Metric); Size / Dimension: 0.063" L x 0.031" W (1.60mm x 0.80mm); Manufacturer Part Number: CL10A475KA8NQNC; Thickness (Max): 0.035" (0.90mm); ComponentLink1Description: Datasheet; ComponentLink1URL: http://www.samsungsem.com/kr/support/product-search/mlcc/__icsFiles/afieldfile/2019/05/10/19-CL10A475KA8NQNC.pdf; Supplier 1: Digi-Key; Supplier Part Number 1: 1276-1900-1-ND
footprint 0603[1608]
pins: 1, 2

## CRGCQ0603J10R
designator R?  Resistance: 10 Ohms  (hidden comment: CRGCQ0603J10R)
CRGCQ 0603 10R 5%; Manufacturer: TE Connectivity Passive Product; Power  (W): 0.1W; Temperature Coefficient: ±400ppm/°C; Package: 0603 (1608 Metric); Tolerance: ±5%; Operating Temperature: -55°C ~ 155°C; Composition: Thick Film; Manufacturer Part Number: CRGCQ0603J10R; ComponentLink1Description: Datasheet; ComponentLink1URL: https://www.te.com/commerce/DocumentDelivery/DDEController?Action=srchrtrv&DocNm=1773204-3&DocType=DS&DocLang=English; Features: Automotive AEC-Q200, Moisture Resistant; Size / Dimension: 0.063" L x 0.031" W (1.60mm x 0.80mm); Height - Seated (Max): 0.022" (0.55mm); Number of Terminations: 2; Supplier 1: Digi-Key; Supplier Part Number 1: A130079CT-ND
footprint 0603[1608]
pins: 1, 2
1 alternate drawing of the same symbol

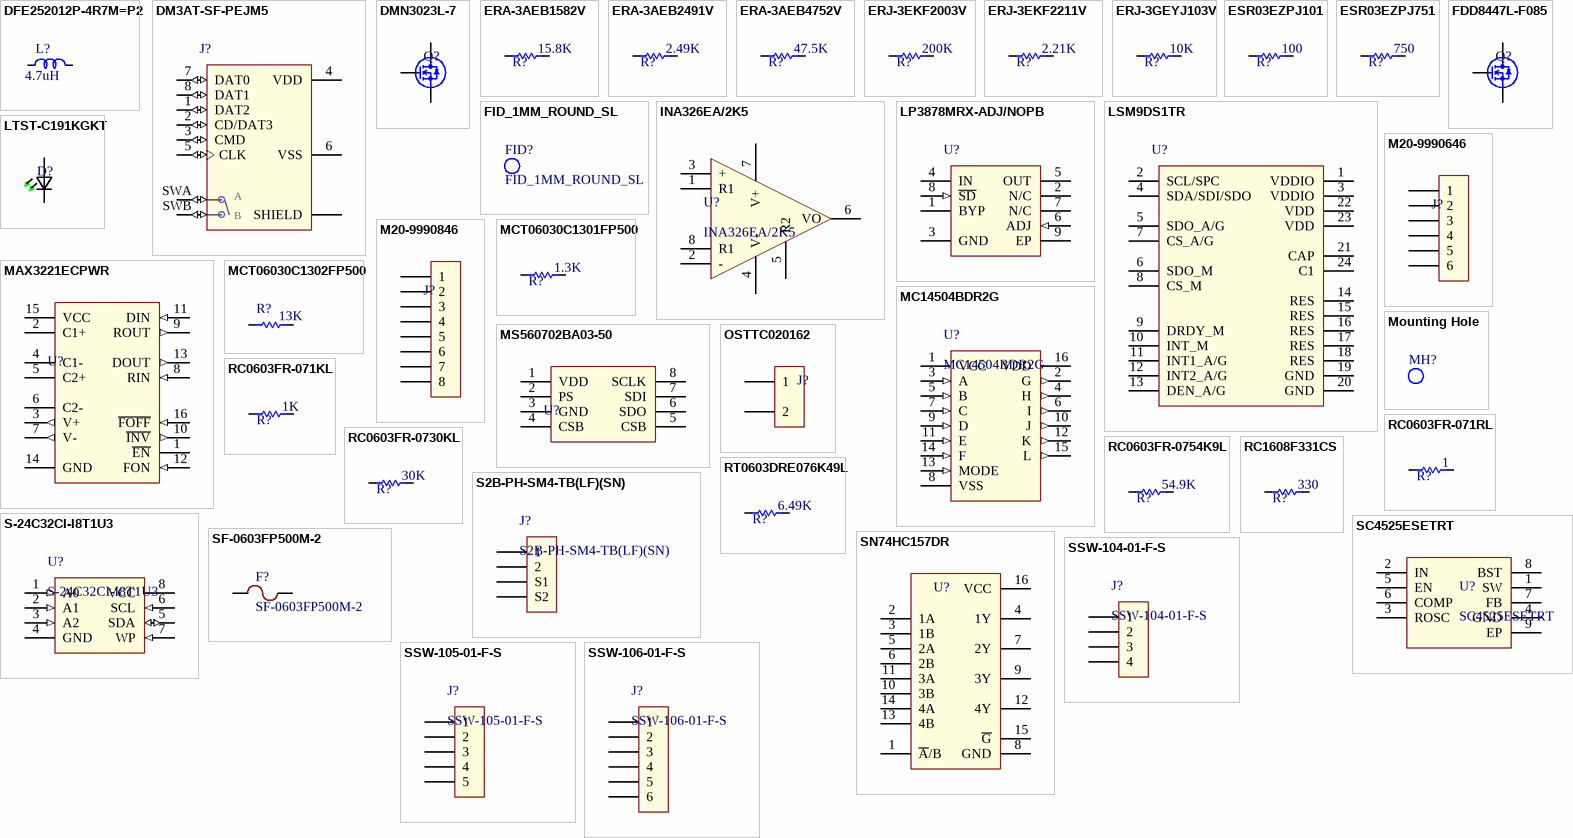
[diagram p1: symbols DFE252012P-4R7M=P2 to SSW-106-01-F-S]

## DFE252012P-4R7M=P2
designator L?  value 4.7uH  (hidden comment: DFE252012P-4R7M=P2)
FIXED IND 4.7UH 2A 200 MOHM SMD; Manufacturer: Murata Electronics; Type: Wirewound; Material - Core: Iron Powder; Tolerance: +-20%; Shielding: Shielded; DC Resistance (DCR): 200mOhm Max; Inductance Frequency - Test: 1MHz; Supplier 1: Digi-Key; Series: DFE252012P; Current Rating (Amps): 2A; Operating Temperature: -40C to 125C; Mounting Type: Surface Mount; Size/Dimension: 0.098" L x 0.079" W (2.50mm x 2.00mm); Height - Seated (Max): 0.047" (1.20mm); Supplier Part Number 1: 490-10651-1-ND; ComponentLink1Description: Datasheet; ComponentLink1URL: https://www.murata.com/~/media/webrenewal/products/inductor/chip/tokoproducts/wirewoundmetalalloychiptype/m_dfe252012p.ashx
footprint DFE252012P-4R7M=P2 (FIXED IND 4.7UH 2A 200 MOHM SMD)
pins: 1, 2

## DM3AT-SF-PEJM5
designator J?  (value not drawn)
CONN MICRO SD CARD PUSH-PUSH R/A; Manufacturer: Hirose Electric Co Ltd; Card Type: Secure Digital - microSD™; Number of Positions: 10 (8 + 2); Connector Type: Connector and Ejector; Insertion, Removal Method: Push In, Push Out; Supplier 1: Digi-Key; ComponentLink1Description: Datasheet; ComponentLink1URL: https://www.hirose.com/product/document?clcode=CL0609-0033-6-00&productname=DM3AT-SF-PEJ2M5&series=DM3&documenttype=Catalog&lang=en&documentid=D49662_en; Supplier Part Number 1: HR1964CT-ND; Manufacturer Part Number: DM3AT-SF-PEJM5; Mounting Type: Surface Mount, Right Angle; Features: Switch; Height Above Board: 0.066" (1.68mm); Mounting Feature: Normal, Standard - Top; Contact Finish: Gold
footprint DM3AT-SF-PEJM5
pins: 1 DAT2 (io), 2 CD/DAT3 (io), 3 CMD (io), 4 VDD (power), 5 CLK (io), 6 VSS (power), 7 DAT0 (io), 8 DAT1 (io), P1 SHIELD, P2 SHIELD, P3 SHIELD, P4 SHIELD, SWA A (io), SWB B (io)

## DMN3023L-7
designator Q?  (value not drawn)
MOSFET N-CH 30V 6.2A SOT23; Manufacturer: Diodes Incorporated; FET Type: N-Channel; Current - Continuous Drain (Id) @ 25C: 6.2A (Ta); Drive Voltage (Max Rds On, Min Rds On): 2.5V, 10V; Rds On (Max) @ Id, Vgs: 25mOhm @ 4A, 10V; Vgs(th) (Max) @ Id: 1.8V @ 250µA; Gate Charge (Qg) (Max) @ Vgs: 18.4nC @10V; Vgs (Max): +-20V; Input Capacitance (Ciss) (Max) @ Vds: 873pF @ 15V; Power Dissipation (Max): 900mW (Ta); Supplier 1: Digi-Key; Technology: MOSFET (Metal Oxide); Drain to Source Voltage (Vdss): 30V; Operating Temperature: -55°C ~ 150°C (TJ); Mounting Type: Surface Mount; Supplier Device Package: SOT-23; Supplier Part Number 1: DMN3023L-7DICT-ND; ComponentLink1Description: Datasheet; ComponentLink1URL: https://www.diodes.com/assets/Datasheets/DMN3023L.pdf
footprint DMN3023L-7 (MOSFET N-CH 30V 6.2A SOT23)
pins: 1 G, 2 S, 3 D

## ERA-3AEB1582V
designator R?  Resistance: 15.8K  (hidden comment: ERA-3AEB1582V)
RES SMD 15.8KOHM 0.1% 1/10W 0603; Manufacturer: Panasonic Electronic Components; Power  (W): 0.1W; Temperature Coefficient: ±25ppm/°C; Package: 0603 (1608 Metric); Tolerance: ±0.1%; Operating Temperature: -55°C ~ 155°C; Composition: Thin Film; Manufacturer Part Number: ERA-3AEB1582V; ComponentLink1Description: Datasheet; ComponentLink1URL: https://industrial.panasonic.com/cdbs/www-data/pdf/RDM0000/AOA0000C307.pdf; Supplier 1: Digi-Key; Supplier Part Number 1: P15.8KDBCT-ND
footprint 0603[1608]
pins: 1, 2
1 alternate drawing of the same symbol

## ERA-3AEB2491V
designator R?  Resistance: 2.49K  (hidden comment: ERA-3AEB2491V)
RES SMD 2.49KOHM 0.1% 1/10W 0603; Manufacturer: Panasonic Electronic Components; Power  (W): 0.1W; Temperature Coefficient: ±25ppm/°C; Package: 0603 (1608 Metric); Tolerance: ±0.1%; Operating Temperature: -55°C ~ 155°C; Composition: Thin Film; Manufacturer Part Number: ERA-3AEB2491V; ComponentLink1Description: Datasheet; ComponentLink1URL: https://industrial.panasonic.com/cdbs/www-data/pdf/RDM0000/AOA0000C307.pdf; Supplier 1: Digi-Key; Supplier Part Number 1: P2.49KDBCT-ND
footprint 0603[1608]
pins: 1, 2
1 alternate drawing of the same symbol

## ERA-3AEB4752V
designator R?  Resistance: 47.5K  (hidden comment: ERA-3AEB4752V)
RES SMD 47.5KOHM 0.1% 1/10W 0603; Manufacturer: Panasonic Electronic Components; Power  (W): 0.1W; Temperature Coefficient: ±25ppm/°C; Package: 0603 (1608 Metric); Tolerance: ±0.1%; Operating Temperature: -55°C ~ 155°C; Composition: Thin Film; Manufacturer Part Number: ERA-3AEB4752V; ComponentLink1Description: Datasheet; ComponentLink1URL: https://industrial.panasonic.com/cdbs/www-data/pdf/RDM0000/AOA0000C307.pdf; Supplier 1: Digi-Key; Supplier Part Number 1: P47.5KDBCT-ND
footprint 0603[1608]
pins: 1, 2
1 alternate drawing of the same symbol

## ERJ-3EKF2003V
designator R?  Resistance: 200K  (hidden comment: ERJ-3EKF2003V)
RES SMD 200K OHM 1% 1/10W 0603; Manufacturer: Panasonic Electronic Components; Power  (W): 0.1W; Temperature Coefficient: ±100ppm/°C; Package: 0603 (1608 Metric); Tolerance: ±1%; Operating Temperature: -55°C ~ 155°C; Composition: Thick Film; Manufacturer Part Number: ERJ-3EKF2003V; ComponentLink1Description: Datasheet; ComponentLink1URL: https://industrial.panasonic.com/cdbs/www-data/pdf/RDA0000/AOA0000C304.pdf; Supplier 1: Digi-Key; Supplier Part Number 1: P200KHCT-ND
footprint 0603[1608]
pins: 1, 2
1 alternate drawing of the same symbol

## ERJ-3EKF2211V
designator R?  Resistance: 2.21K  (hidden comment: ERJ-3EKF2211V)
RES SMD 2.21K OHM 1% 1/10W 0603; Manufacturer: Panasonic Electronic Components; Manufacturer Part Number: ERJ-3GEYJ103V; Power  (W): 0.1W; Temperature Coefficient: ±100ppm/°C; Package: 0603 (1608 Metric); Tolerance: ±1%; Operating Temperature: -55°C ~ 155°C; Composition: Thick Film; ComponentLink1Description: Datasheet; ComponentLink1URL: https://industrial.panasonic.com/cdbs/www-data/pdf/RDA0000/AOA0000C304.pdf; Supplier 1: Digi-Key; Supplier Part Number 1: P10KGCT-ND
footprint 0603[1608]
pins: 1, 2
1 alternate drawing of the same symbol

## ERJ-3GEYJ103V
designator R?  Resistance: 10K  (hidden comment: ERJ-3GEYJ103V)
RES SMD 10K OHM 5% 1/10W 0603; Manufacturer: Panasonic Electronic Components; Power  (W): 0.1W; Temperature Coefficient: ±200ppm/°C; Package: 0603 (1608 Metric); Tolerance: ±5%; Operating Temperature: -55°C ~ 155°C; Composition: Thick Film; Manufacturer Part Number: ERJ-3GEYJ103V; ComponentLink1Description: Datasheet; ComponentLink1URL: https://industrial.panasonic.com/cdbs/www-data/pdf/RDA0000/DMA0000COL11.pdf; Supplier 1: Digi-Key; Supplier Part Number 1: P10KGCT-ND; ComponentLink2Description: Land Pattern; ComponentLink2URL: https://industrial.panasonic.com/cdbs/www-data/pdf/RDA0000/DMA0000COL17.pdf
footprint 0603[1608]
pins: 1, 2
1 alternate drawing of the same symbol

## ESR03EZPJ101
designator R?  Resistance: 100  (hidden comment: ESR03EZPJ101)
RES SMD 100 OHM 5% 1/4W 0603; Manufacturer: Rohm Semiconductor; Power  (W): 0.25W; Temperature Coefficient: ±200ppm/°C; Package: 0603 (1608 Metric); Tolerance: ±5%; Operating Temperature: -55°C ~ 155°C; Composition: Thick Film; Manufacturer Part Number: ESR03EZPJ101; ComponentLink1Description: Datasheet; ComponentLink1URL: https://d1d2qsbl8m0m72.cloudfront.net/en/products/databook/datasheet/passive/resistor/chip_resistor/esr-e.pdf; Supplier 1: Digi-Key; Supplier Part Number 1: RHM100DCT-ND
footprint 0603[1608]
pins: 1, 2
1 alternate drawing of the same symbol

## ESR03EZPJ751
designator R?  Resistance: 750  (hidden comment: ESR03EZPJ751)
RES SMD 750 OHM 5% 1/4W 0603; Manufacturer: Rohm Semiconductor; Power  (W): 0.25W; Temperature Coefficient: ±200ppm/°C; Package: 0603 (1608 Metric); Tolerance: ±5%; Operating Temperature: -55°C ~ 155°C; Composition: Thick Film; Manufacturer Part Number: ESR03EZPJ751; ComponentLink1Description: Datasheet; ComponentLink1URL: https://d1d2qsbl8m0m72.cloudfront.net/en/products/databook/datasheet/passive/resistor/chip_resistor/esr-e.pdf; Supplier 1: Digi-Key; Supplier Part Number 1: RHM750DCT-ND
footprint 0603[1608]
pins: 1, 2
1 alternate drawing of the same symbol

## FDD8447L-F085
designator Q?  (value not drawn)
MOSFET N-CH 40V 50A DPAK; Manufacturer: ON Semiconductor; FET Type: N-Channel; Current - Continuous Drain (Id) @ 25C: 50A (Tc); Drive Voltage (Max Rds On, Min Rds On): 4.5V, 10V; Rds On (Max) @ Id, Vgs: 8.5mOhm @ 14A, 10V; Vgs(th) (Max) @ Id: 3V @ 250µA; Gate Charge (Qg) (Max) @ Vgs: 52nC @ 10V; Vgs (Max): ±20V; Input Capacitance (Ciss) (Max) @ Vds: 1970pF @ 20V; Power Dissipation (Max): 65W (Tc); Drain to Source Voltage (Vdss): 40V; Operating Temperature: -55°C ~ 175°C (TJ); Mounting Type: Surface Mount; Supplier Device Package: D-PAK (TO-252); ComponentLink1Description: Datasheet; ComponentLink1URL: https://www.onsemi.com/pub/Collateral/FDD8447L_F085-D.PDF; Supplier 1: Arrow; Supplier Part Number 1: FDD8447L_F085
footprint DPAK229P991X239-3N (D-PAK, 3-Pads, Body 6.15x6.63mm (max), IPC Medium Density)
pins: 1 G, 3 S, 4 D

## FID_1MM_ROUND_SL
designator FID?  (no BOM)
Fiducial 1mm Round Single Layer
footprint FID_1MM_ROUND_SL (Fiducial 1MM Round Single Layer)

## INA326EA/2K5
designator U?
IC INST AMP 1 CIRCUIT 8VSSOP; Manufacturer: Texas Instruments; Amplifier Type: Instrumentation; Number of Circuits: 1; Output Type: Rail-to-Rail; -3db Bandwidth: 1kHz; Current - Input Bias: 200pA; Voltage - Input Offset: 20µV; Current - Supply: 2.4mA; Current - Output / Channel: 25mA; Voltage - Supply, Single/Dual (±): 2.7V ~ 5.5V, ±1.35V ~ 2.75V; ComponentLink1Description: Datasheet; ComponentLink1URL: http://www.ti.com/lit/ds/symlink/ina326.pdf; Operating Temperature: -40°C ~ 85°C; Mounting Type: Surface Mount; Package / Case: 8-TSSOP, 8-MSOP (0.118", 3.00mm Width); Supplier Device Package: 8-VSSOP; Base Part Number: INA326; Supplier 1: Digi-Key; Supplier Part Number 1: INA326EA/2K5CT-ND; Manufacturer Part Number: INA326EA/2K5
footprint TSOP65P490X110-8N (TSOP, 8-Leads, Body 3.00x3.00mm, Pitch 0.65mm, IPC Medium Density)
pins: 1 R1, 2 -, 3 +, 4 V- (power), 5 R2, 6 VO, 7 V+ (power), 8 R1

## LP3878MRX-ADJ/NOPB
designator U?  (value not drawn)
IC REG LIN POS ADJ 800MA 8SO; Manufacturer: Texas Instruments; Number of Regulators: 1; Voltage - Input (Max): 16V; Voltage - Output (Min/Fixed): 1V; Voltage - Output (Max): 5.5V; Voltage Dropout (Max): 1.1V @ 800mA; Current - Quiescent (Iq): 1.5mA; Current - Supply (Max): 15mA; PSRR: 60dB (1kHz); Control Features: Enable; Protection Features: Over Current, Over Temperature, Short Circuit; ComponentLink1Description: Datasheet; ComponentLink1URL: http://www.ti.com/lit/ds/symlink/lp3878-adj.pdf; Manufacturer Part Number: LP3878MRX-ADJ/NOPB; Current - Output: 800mA; Operating Temperature: -40°C ~ 125°C; Mounting Type: Surface Mount; Package / Case: 8-PowerSOIC (0.154", 3.90mm Width); Base Part Number: LP3878; Supplier 1: Digi-Key; Supplier Part Number 1: LP3878MRX-ADJ/NOPBTR-ND
footprint SOIC127P600X170_HS-9N (SOIC, 8-Leads, Body 4.90x3.90mm, Pitch 1.27mm, Thermal Pad 3.40x2.71mm, IPC Medium Density)
pins: 1 BYP, 2 N/C, 3 GND (power), 4 IN (power), 5 OUT (power), 6 ADJ (in), 7 N/C, 8 ~{SD} (in), 9 EP (power)

## LSM9DS1TR
designator U?  (value not drawn)
IMU ACCEL/GYRO/MAG I2C/SPI 24LGA; Manufacturer: STMicroelectronics; Sensor Type: Accelerometer, Gyroscope, Magnetometer, Temperature, 9 Axis; Output Type: I²C, SPI; ComponentLink1Description: Datasheet; ComponentLink1URL: https://www.st.com/content/ccc/resource/technical/document/datasheet/1e/3f/2a/d6/25/eb/48/46/DM00103319.pdf/files/DM00103319.pdf/jcr:content/translations/en.DM00103319.pdf; Supplier 1: Digi-Key; Supplier Part Number 1: 497-14946-1-ND; Operating Temperature: -40°C ~ 85°C (TA); Package / Case: 24-TFLGA Module; Supplier Device Package: 24-LGA (3x3.5); Mounting Type: Surface Mount; Manufacturer Part Number: LSM9DS1TR
footprint LSM9DS1TR
pins: 1 VDDIO (power), 2 SCL/SPC, 3 VDDIO (power), 4 SDA/SDI/SDO, 5 SDO_A/G, 6 SDO_M, 7 CS_A/G, 8 CS_M, 9 DRDY_M, 10 INT_M, 11 INT1_A/G, 12 INT2_A/G, 13 DEN_A/G, 14 RES, 15 RES, 16 RES, 17 RES, 18 RES, 19 GND (power), 20 GND (power), 21 CAP, 22 VDD (power), 23 VDD (power), 24 C1

## LTST-C191KGKT
designator D?  (value not drawn)
LED GREEN CLEAR SMD 0603; Manufacturer: Lite-On Inc.; Lens Color: Colourless; Millicandela Rating: 35mcd; Lens Style: Rectangle with Flat Top; Lens Size: 1.10mm x 0.80mm; Voltage - Forward (Vf) (Typ): 2V; Current - Test: 20mA; Viewing Angle: 130°; Wavelength - Dominant: 571nm; Wavelength - Peak: 574nm; ComponentLink1Description: Datasheet; ComponentLink1URL: http://optoelectronics.liteon.com/upload/download/DS22-2000-228/LTST-C191KGKT.PDF; Manufacturer Part Number: LTST-C191KGKT; Colour: Green; Lens Transparency: Clear; Mounting Type: Surface Mount; Package / Case: 0603 (1608 Metric); Size / Dimension: 1.60mm L x 0.80mm W; Height (Max): 0.65mm; Supplier 1: Digi-Key; Supplier Part Number 1: 160-1446-1-ND
footprint LTST-C191KGKT (Green 571nm LED Indication - Discrete 2V 0603)
pins: 1 K2, 2 A2